# EAGLE library part 687120149022 (library Eagle_FPC_CONNECTOR_AND_FFC_CAB (rev18c))
WR-FPC 0.50mm SMT Horiz. Bot. Contact Hinge type WR-FPC 0.50mm 20 pins Hinge type SMT Horizontal Bottom Contact ;=>Code : Con_FPC_ZIF_0.50_6871xx149022_687120149022 <http://katalog.we-online.de/media/images/eican/Con_FPC_ZIF_0.50_687115149022_pf2.jpg> Details see: http://katalog.we-online.de/em/datasheet/6871xx149022.pdf Created 2014-10-08, Karrer Zheng 2014 (C) Wurth Elektronik
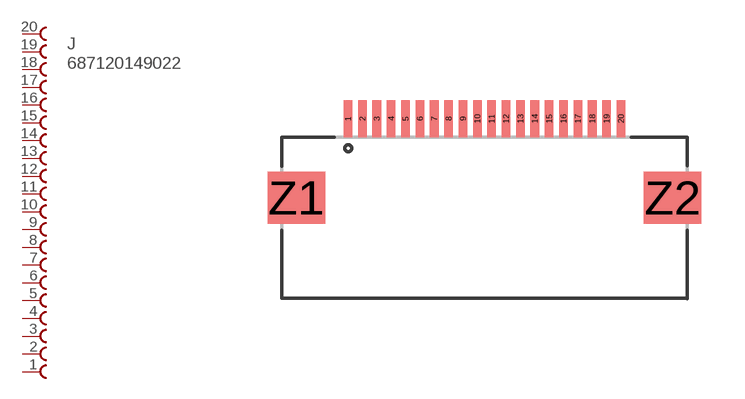
[diagram p112: symbol with the pads of 687120149022; footprint 687120149022]

Designator prefix J

## 687120149022  [687120149022]
1  20  pas
2  19  pas
3  18  pas
4  17  pas
5  16  pas
6  15  pas
7  14  pas
8  13  pas
9  12  pas
10  11  pas
11  10  pas
12  9  pas
13  8  pas
14  7  pas
15  6  pas
16  5  pas
17  4  pas
18  3  pas
19  2  pas
20  1  pas

## Footprint 687120149022 (pad centres in mm)
WR-FPC 0.50mm SMT Horiz. Bot. Contact Hinge type WR-FPC 0.50mm 20pins Hinge type SMT Horizontal Bottom Contact
smd 0.3 x 1.3: 1 -4.75,0; 2 -4.25,0; 3 -3.75,0; 4 -3.25,0; 5 -2.75,0; 6 -2.25,0; 7 -1.75,0; 8 -1.25,0; 9 -0.75,0; 10 -0.25,0; 11 0.25,0; 12 0.75,0; 13 1.25,0; 14 1.75,0; 15 2.25,0; 16 2.75,0; 17 3.25,0; 18 3.75,0; 19 4.25,0; 20 4.75,0
smd 2 x 1.8: Z1 -6.55,-2.75; Z2 6.55,-2.75